# EAGLE library part ESPRUINO_PICO_HALFSMD (library espruino_pico)
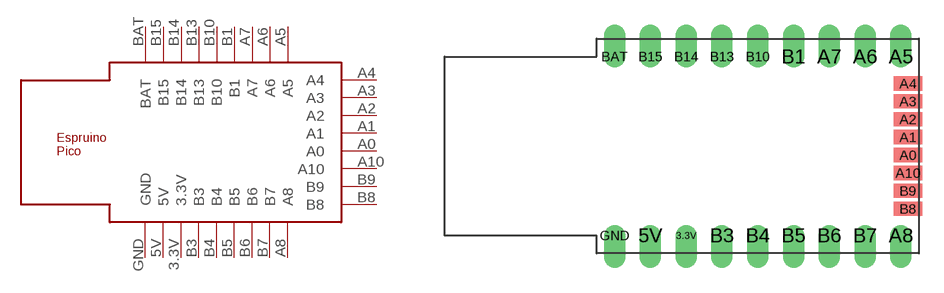
[diagram p5: symbol with the pads of ESPRUINO_PICO_HALFSMD; footprint ESPRUINO_PICO_HALFSMD]

Designator prefix -

## ESPRUINO_PICO_HALFSMD  [ESPRUINO_PICO_HALFSMD]
3.3V  3.3V
5V  5V
A0  A0
A1  A1
A2  A2
A3  A3
A4  A4
A5  A5
A6  A6
A7  A7
A8  A8
A10  A10
B1  B1
B3  B3
B4  B4
B5  B5
B6  B6
B7  B7
B8  B8
B9  B9
B10  B10
B13  B13
B14  B14
B15  B15
BAT  BAT
GND  GND

## Footprint ESPRUINO_PICO_HALFSMD (pad centres in mm)
drill 1.016 offset: 3.3V -7.62,-6.35; 5V -10.16,-6.35; A5 7.62,6.35; A6 5.08,6.35; A7 2.54,6.35; A8 7.62,-6.35; B1 0,6.35; B3 -5.08,-6.35; B4 -2.54,-6.35; B5 0,-6.35; B6 2.54,-6.35; B7 5.08,-6.35; B10 -2.54,6.35; B13 -5.08,6.35; B14 -7.62,6.35; B15 -10.16,6.35; BAT -12.7,6.35; GND -12.7,-6.35
smd 2.032 x 1.016: A0 8.128,-0.635; A1 8.128,0.635; A2 8.128,1.905; A3 8.128,3.175; A4 8.128,4.445; A10 8.128,-1.905; B8 8.128,-4.445; B9 8.128,-3.175